# Altium integrated library modules.IntLib: 10 symbols
Pins are listed as number, name and electrical type; pins without a type are passive.

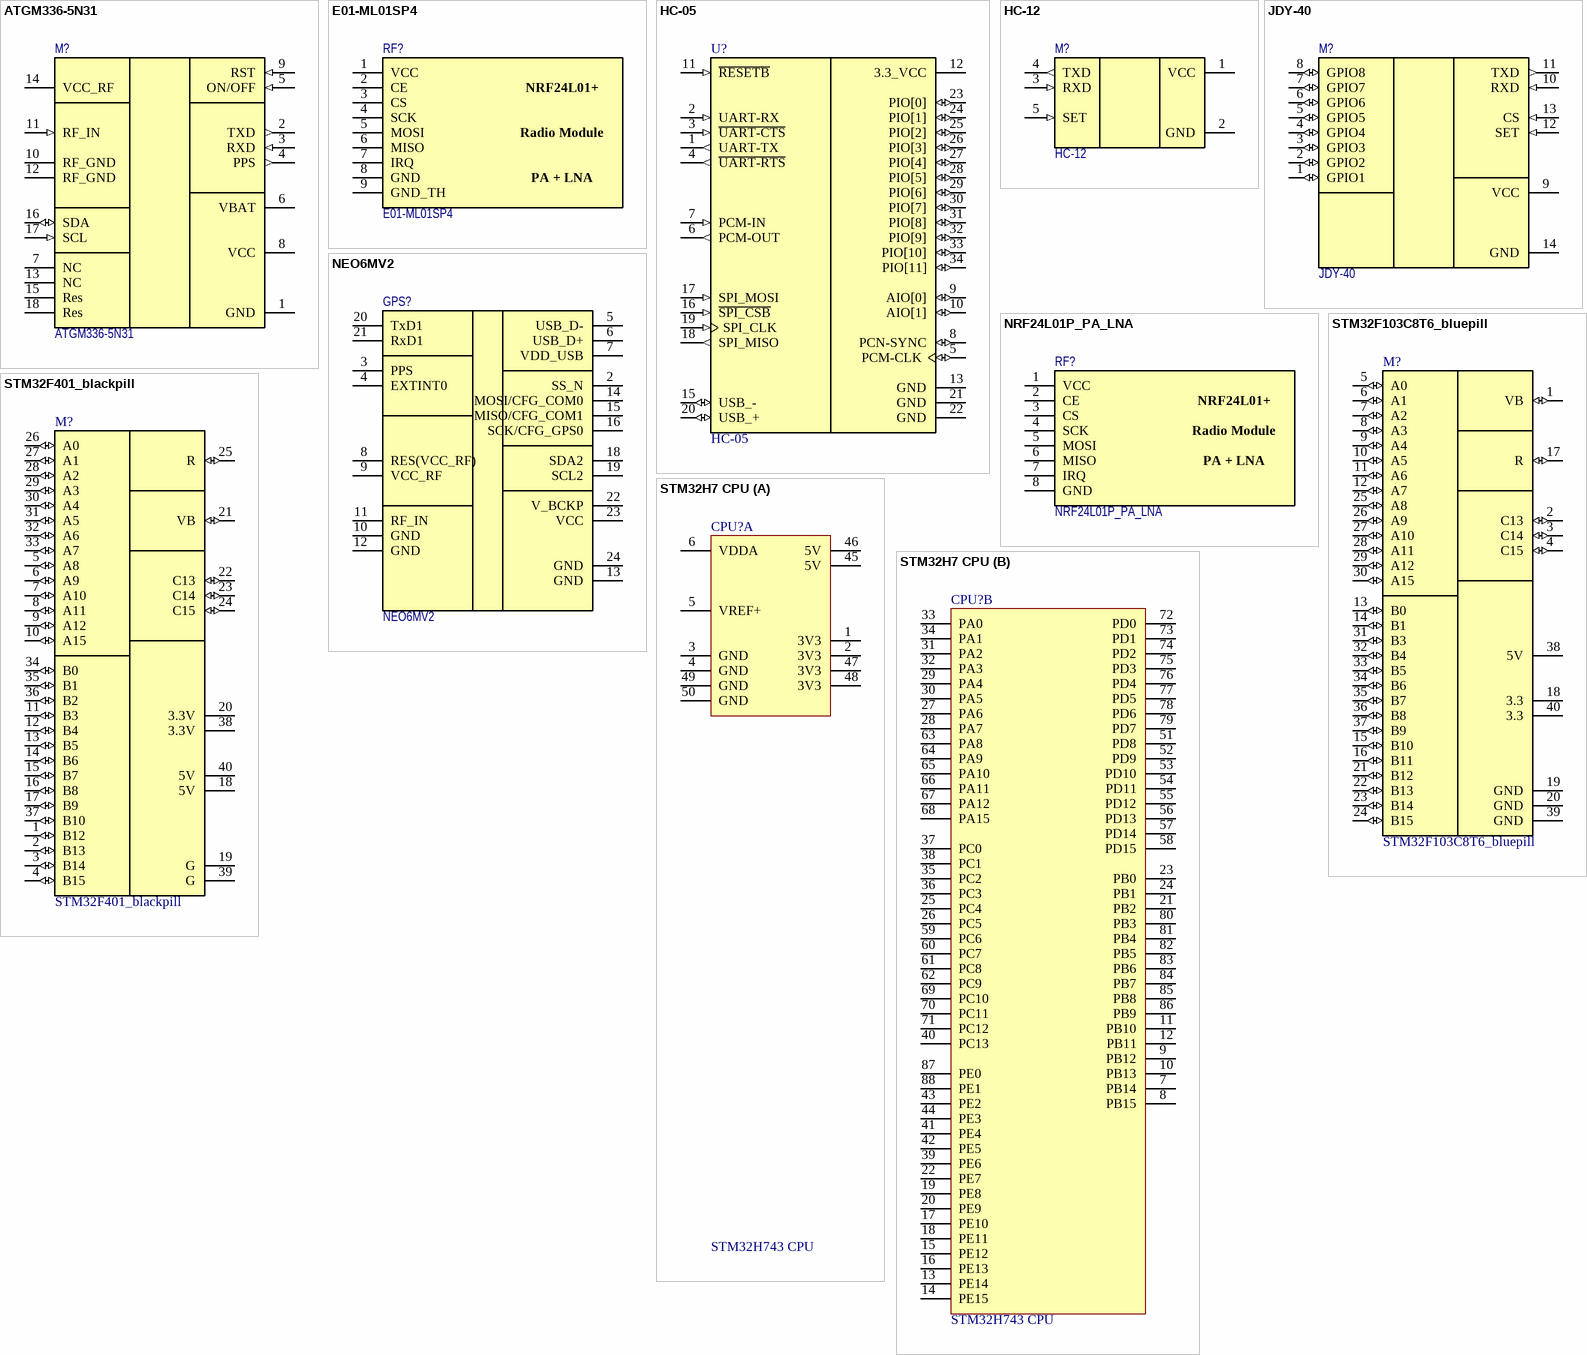
[diagram p0: symbols ATGM336-5N31 to STM32H7 CPU]

## ATGM336-5N31
designator M?
GNSS
footprint ATGM336 (PQFN, 18-Leads, Body 9,70x10,10mm, Pitch 1,10mm, IPC Low Density)
pins: 1 GND (power), 2 TXD (out), 3 RXD (in), 4 PPS (out), 5 ON/OFF (in), 6 VBAT (power), 7 NC, 8 VCC (power), 9 RST (in), 10 RF_GND (power), 11 RF_IN (in), 12 RF_GND (power), 13 NC, 14 VCC_RF (power), 15 Res, 16 SDA (io), 17 SCL (in), 18 Res

## E01-ML01SP4
designator RF?
RF
footprint E01_ML01SP4
pins: 1 VCC, 2 CE, 3 CS, 4 SCK, 5 MOSI, 6 MISO, 7 IRQ, 8 GND, 9 GND_TH
text: NRF24L01+; Radio Module; PA + LNA

## HC-05
designator U?
Bluetooth to Serial Port Module; MF: Bel Power solution; Value: *; Availability: Unavailable; Price: None; SnapEDA_Link: https://www.snapeda.com/parts/HC-05/Bel%20Power%20Solutions/view-part/106410/?ref=snap; Check_prices: https://www.snapeda.com/parts/HC-05/Bel%20Power%20Solutions/view-part/106410/?ref=eda; Package: SOIC-14; MP: HC-05
footprint HC-05
pins: 1 UART-TX (out), 2 UART-RX (in), 3 ~{UART-CTS} (in), 4 ~{UART-RTS} (out), 5 PCM-CLK (io), 6 PCM-OUT (out), 7 PCM-IN (in), 8 PCN-SYNC (io), 9 AIO[0] (io), 10 AIO[1] (io), 11 ~{RESETB} (in), 12 3.3_VCC (power), 13 GND (power), 15 USB_- (io), 16 ~{SPI_CSB} (in), 17 SPI_MOSI (in), 18 SPI_MISO (out), 19 SPI_CLK (in), 20 USB_+ (io), 21 GND (power), 22 GND (power), 23 PIO[0] (io), 24 PIO[1] (io), 25 PIO[2] (io), 26 PIO[3] (io), 27 PIO[4] (io), 28 PIO[5] (io), 29 PIO[6] (io), 30 PIO[7] (io), 31 PIO[8] (io), 32 PIO[9] (io), 33 PIO[10] (io), 34 PIO[11] (io)

## HC-12
designator M?
RF
footprint HC-12
pins: 1 VCC (power), 2 GND (power), 3 RXD (in), 4 TXD (out), 5 SET (in)

## JDY-40
designator M?
RF
footprint JDY-40
pins: 1 GPIO1 (io), 2 GPIO2 (io), 3 GPIO3 (io), 4 GPIO4 (io), 5 GPIO5 (io), 6 GPIO6 (io), 7 GPIO7 (io), 8 GPIO8 (io), 9 VCC (power), 10 RXD (in), 11 TXD (out), 12 SET (in), 13 CS (in), 14 GND (power)

## NEO6MV2
designator GPS?
GNSS
footprint NEO-6M
pins: 2 SS_N, 3 PPS, 4 EXTINT0, 5 USB_D-, 6 USB_D+, 7 VDD_USB, 8 RES(VCC_RF), 9 VCC_RF, 10 GND, 11 RF_IN, 12 GND, 13 GND, 14 MOSI/CFG_COM0, 15 MISO/CFG_COM1, 16 SCK/CFG_GPS0, 18 SDA2, 19 SCL2, 20 TxD1, 21 RxD1, 22 V_BCKP, 23 VCC, 24 GND

## NRF24L01P_PA_LNA
designator RF?
RF
footprint NRF24L01P+PA+LNA
pins: 1 VCC, 2 CE, 3 CS, 4 SCK, 5 MOSI, 6 MISO, 7 IRQ, 8 GND
text: NRF24L01+; Radio Module; PA + LNA

## STM32F103C8T6_bluepill
designator M?
STM32F103C8T6 blu-pill module
footprint STM32F103_BLUEPILL
pins: 1 VB (io), 2 C13 (io), 3 C14 (io), 4 C15 (io), 5 A0 (io), 6 A1 (io), 7 A2 (io), 8 A3 (io), 9 A4 (io), 10 A5 (io), 11 A6 (io), 12 A7 (io), 13 B0 (io), 14 B1 (io), 15 B10 (io), 16 B11 (io), 17 R (io), 18 3.3 (power), 19 GND (power), 20 GND (power), 21 B12 (io), 22 B13 (io), 23 B14 (io), 24 B15 (io), 25 A8 (io), 26 A9 (io), 27 A10 (io), 28 A11 (io), 29 A12 (io), 30 A15 (io), 31 B3 (io), 32 B4 (io), 33 B5 (io), 34 B6 (io), 35 B7 (io), 36 B8 (io), 37 B9 (io), 38 5V (power), 39 GND (power), 40 3.3 (power)

## STM32F401_blackpill
designator M?
STM32F401 blackpill module
footprint STM32F401_blackpill
pins: 1 B12 (io), 2 B13 (io), 3 B14 (io), 4 B15 (io), 5 A8 (io), 6 A9 (io), 7 A10 (io), 8 A11 (io), 9 A12 (io), 10 A15 (io), 11 B3 (io), 12 B4 (io), 13 B5 (io), 14 B6 (io), 15 B7 (io), 16 B8 (io), 17 B9 (io), 18 5V (power), 19 G (power), 20 3.3V (power), 21 VB (io), 22 C13 (io), 23 C14 (io), 24 C15 (io), 25 R (io), 26 A0 (io), 27 A1 (io), 28 A2 (io), 29 A3 (io), 30 A4 (io), 31 A5 (io), 32 A6 (io), 33 A7 (io), 34 B0 (io), 35 B1 (io), 36 B2 (io), 37 B10 (io), 38 3.3V (power), 39 G (power), 40 5V (power)

## STM32H7 CPU
designator CPU?, comment STM32H743 CPU
STM32H743 processor module
footprint STM32H7_CPU
part A pins: 1 3V3, 2 3V3, 3 GND, 4 GND, 5 VREF+, 6 VDDA, 45 5V, 46 5V, 47 3V3, 48 3V3, 49 GND, 50 GND
part B pins: 7 PB14, 8 PB15, 9 PB12, 10 PB13, 11 PB10, 12 PB11, 13 PE14, 14 PE15, 15 PE12, 16 PE13, 17 PE10, 18 PE11, 19 PE8, 20 PE9, 21 PB2, 22 PE7, 23 PB0, 24 PB1, 25 PC4, 26 PC5, 27 PA6, 28 PA7, 29 PA4, 30 PA5, 31 PA2, 32 PA3, 33 PA0, 34 PA1, 35 PC2, 36 PC3, 37 PC0, 38 PC1, 39 PE6, 40 PC13, 41 PE4, 42 PE5, 43 PE2, 44 PE3, 51 PD8, 52 PD9, 53 PD10, 54 PD11, 55 PD12, 56 PD13, 57 PD14, 58 PD15, 59 PC6, 60 PC7, 61 PC8, 62 PC9, 63 PA8, 64 PA9, 65 PA10, 66 PA11, 67 PA12, 68 PA15, 69 PC10, 70 PC11, 71 PC12, 72 PD0, 73 PD1, 74 PD2, 75 PD3, 76 PD4, 77 PD5, 78 PD6, 79 PD7, 80 PB3, 81 PB4, 82 PB5, 83 PB6, 84 PB7, 85 PB8, 86 PB9, 87 PE0, 88 PE1